# EAGLE library part LED_MATRIX_8X8_SINGLE_COMA (library mylib_20130829)
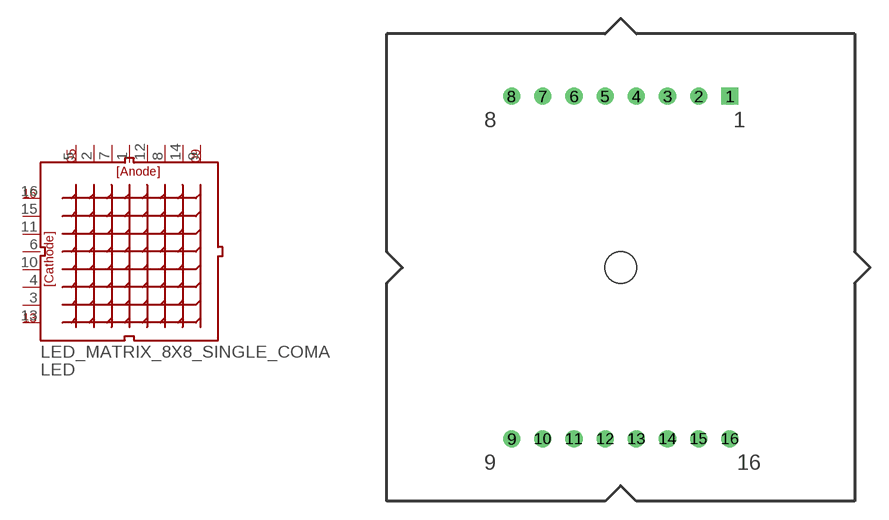
[diagram p6: symbol with the pads of LED_MATRIX_8X8_R; footprint LED_MATRIX_8X8_R]

Designator prefix LED

## LED_MATRIX_8X8_SINGLE_COMA  [LED_MATRIX_8X8_R]
1  R5
2  R7
3  COM2
4  COM3
5  A8
6  COM5
7  R6
8  R3
9  R1
10  COM4
11  COM6
12  R4
13  COM1
14  R2
15  COM7
16  COM8

## Footprint LED_MATRIX_8X8_R (pad centres in mm)
drill 0.889 square: 1 8.89,13.97
drill 0.889: 2 6.35,13.97; 3 3.81,13.97; 4 1.27,13.97; 5 -1.27,13.97; 6 -3.81,13.97; 7 -6.35,13.97; 8 -8.89,13.97; 9 -8.89,-13.97; 10 -6.35,-13.97; 11 -3.81,-13.97; 12 -1.27,-13.97; 13 1.27,-13.97; 14 3.81,-13.97; 15 6.35,-13.97; 16 8.89,-13.97